# Altium footprint library BGA.PcbLib: 7 footprints
Each footprint in its own frame and in the unit in brackets; x right, y up, seen from the top. Pads: shape width x height; smd on the part's side, far side on the other; paste and mask are expansions set on the pad; w line width, h text height; cw(c..) or ccw(c..) is an arc to the next point about the centre after c.
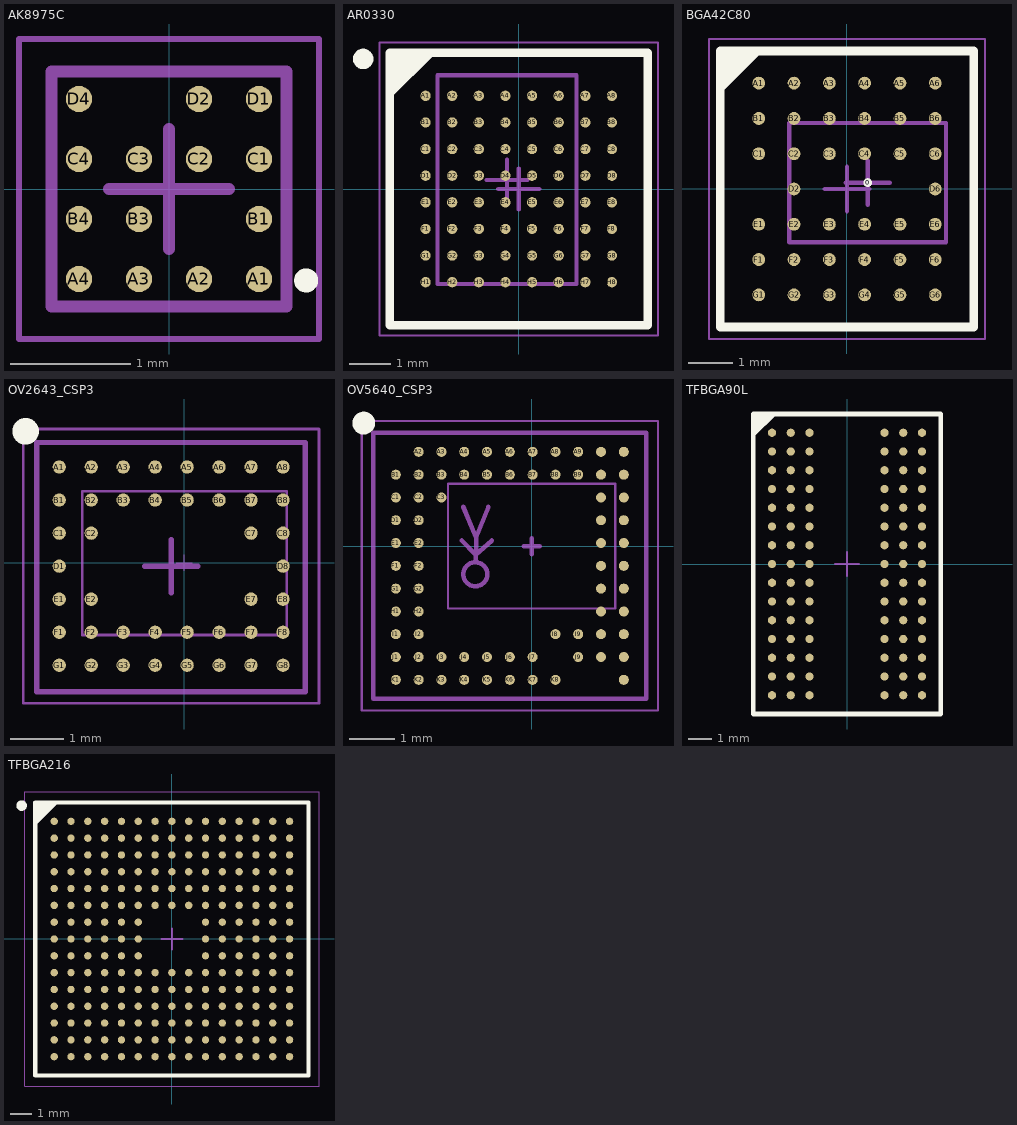
[diagram p0: the footprints below, top view; thin cyan lines are the x and y axes]

## AK8975C [mm]
height 0.65
pads (14):
  round 0.22 smd: A1(0.75,-0.75) A2(0.25,-0.75) A3(-0.25,-0.75) A4(-0.75,-0.75) B1(0.75,-0.25) B3(-0.25,-0.25) B4(-0.75,-0.25) C1(0.75,0.25) C2(0.25,0.25) C3(-0.25,0.25) C4(-0.75,0.25) D1(0.75,0.75) D2(0.25,0.75) D4(-0.75,0.75)
Top Overlay:
  circle w0.1: c1.143,-0.762 r0.05
Mechanical 13:
  lines w0.1: -0.98,-0.98 -0.98,0.98 0.98,0.98 0.98,-0.98 -0.98,-0.98
Mechanical 15:
  lines w0.05: -1.25,-1.25 -1.25,1.25 1.25,1.25 1.25,-1.25 -1.25,-1.25
  lines w0.1: -0.5,0 0.5,0 ; 0,-0.5 0,0.5
3D body: height 0.65, standoff 0.19, extent -0.98,-0.98 0.98,0.98

## AR0330 [mm] "BGA, 64-Leads, Body 6,28x6,65mmx0,74mm, Pitch 0,65mm"
height 0.75
pads (64):
  round 0.25 smd: A1(-2.275,2.275) A2(-1.625,2.275) A3(-0.975,2.275) A4(-0.325,2.275) A5(0.325,2.275) A6(0.975,2.275) A7(1.625,2.275) A8(2.275,2.275) B1(-2.275,1.625) B2(-1.625,1.625) B3(-0.975,1.625) B4(-0.325,1.625) B5(0.325,1.625) B6(0.975,1.625) B7(1.625,1.625) B8(2.275,1.625) C1(-2.275,0.975) C2(-1.625,0.975) C3(-0.975,0.975) C4(-0.325,0.975) C5(0.325,0.975) C6(0.975,0.975) C7(1.625,0.975) C8(2.275,0.975) D1(-2.275,0.325) D2(-1.625,0.325) D3(-0.975,0.325) D4(-0.325,0.325) D5(0.325,0.325) D6(0.975,0.325) D7(1.625,0.325) D8(2.275,0.325) E1(-2.275,-0.325) E2(-1.625,-0.325) E3(-0.975,-0.325) E4(-0.325,-0.325) E5(0.325,-0.325) E6(0.975,-0.325) E7(1.625,-0.325) E8(2.275,-0.325) F1(-2.275,-0.975) F2(-1.625,-0.975) F3(-0.975,-0.975) F4(-0.325,-0.975) F5(0.325,-0.975) F6(0.975,-0.975) F7(1.625,-0.975) F8(2.275,-0.975) G1(-2.275,-1.625) G2(-1.625,-1.625) G3(-0.975,-1.625) G4(-0.325,-1.625) G5(0.325,-1.625) G6(0.975,-1.625) G7(1.625,-1.625) G8(2.275,-1.625) H1(-2.275,-2.275) H2(-1.625,-2.275) H3(-0.975,-2.275) H4(-0.325,-2.275) H5(0.325,-2.275) H6(0.975,-2.275) H7(1.625,-2.275) H8(2.275,-2.275)
Top Overlay:
  circle w0.25: c-3.8,3.175 r0.125
  region: -2.15,3.325 -3.15,2.325 -3.15,3.325
  lines w0.2: -3.15,2.325 -2.15,3.325 ; -3.15,-3.325 3.15,-3.325 3.15,3.325 -3.15,3.325 -3.15,-3.325
Mechanical 1:
  lines w0.1: -0.79,0.223 0.21,0.223 ; -0.29,-0.277 -0.29,0.723 ; -1.987,-2.317 1.408,-2.317 1.408,2.776 -1.987,2.776 -1.987,-2.317
Mechanical 13:
  lines w0.1: -3.14,-3.325 3.14,-3.325 3.14,3.325 -3.14,3.325 -3.14,-3.325
Mechanical 15:
  lines w0.05: -3.4,-3.575 3.4,-3.575 3.4,3.575 -3.4,3.575 -3.4,-3.575
  lines w0.1: -0.5,0 0.5,0 ; 0,-0.5 0,0.5
3D body: height 0.75, standoff 0.1, extent -3.14,-3.325 3.14,3.325

## BGA42C80 [mm] "BGA, 42-Leads, Body 5,73x6,26mmx0,96mm, Pitch 0,80mm"
height 0.97
pads (39):
  round 0.2 on Top Overlay: 0(0.469,0.145)
  round 0.29 smd: A1(-2,2.4) A2(-1.2,2.4) A3(-0.4,2.4) A4(0.4,2.4) A5(1.2,2.4) A6(2,2.4) B1(-2,1.6) B2(-1.2,1.6) B3(-0.4,1.6) B4(0.4,1.6) B5(1.2,1.6) B6(2,1.6) C1(-2,0.8) C2(-1.2,0.8) C3(-0.4,0.8) C4(0.4,0.8) C5(1.2,0.8) C6(2,0.8) D2(-1.2,0) D6(2,0) E1(-2,-0.8) E2(-1.2,-0.8) E3(-0.4,-0.8) E4(0.4,-0.8) E5(1.2,-0.8) E6(2,-0.8) F1(-2,-1.6) F2(-1.2,-1.6) F3(-0.4,-1.6) F4(0.4,-1.6) F5(1.2,-1.6) F6(2,-1.6) G1(-2,-2.4) G2(-1.2,-2.4) G3(-0.4,-2.4) G4(0.4,-2.4) G5(1.2,-2.4) G6(2,-2.4)
Top Overlay:
  region: -2.046,3.125 -2.875,2.296 -2.875,3.125
  lines w0.2: -2.875,2.296 -2.046,3.125 ; -2.875,-3.125 -2.875,3.125 2.875,3.125 2.875,-3.125 -2.875,-3.125
Mechanical 1:
  lines w0.1: -0.031,0.145 0.969,0.145 ; 0.469,-0.355 0.469,0.645 ; -1.306,-1.205 2.244,-1.205 2.244,1.495 -1.306,1.495 -1.306,-1.205
Mechanical 13:
  lines w0.1: -2.865,-3.13 -2.865,3.13 2.865,3.13 2.865,-3.13 -2.865,-3.13
Mechanical 15:
  lines w0.05: -3.125,-3.4 -3.125,3.4 3.125,3.4 3.125,-3.4 -3.125,-3.4
  lines w0.1: -0.5,0 0.5,0 ; 0,-0.5 0,0.5
3D body: height 0.97, standoff 0.15, extent -2.865,-3.13 2.865,3.13

## OV2643_CSP3 [mm] "BGA, 56-Leads, Body 5,03x4,64mmx0,84mm, Pitch 0,60mm"
height 0.84
pads (42):
  round 0.25 smd: A1(-2.35,1.798) A2(-1.75,1.798) A3(-1.15,1.798) A4(-0.55,1.798) A5(0.05,1.798) A6(0.65,1.798) A7(1.25,1.798) A8(1.85,1.798) B1(-2.35,1.178) B2(-1.75,1.178) B3(-1.15,1.178) B4(-0.55,1.178) B5(0.05,1.178) B6(0.65,1.178) B7(1.25,1.178) B8(1.85,1.178) C1(-2.35,0.558) C2(-1.75,0.558) C7(1.25,0.558) C8(1.85,0.558) D1(-2.35,-0.062) D8(1.85,-0.062) E1(-2.35,-0.682) E2(-1.75,-0.682) E7(1.25,-0.682) E8(1.85,-0.682) F1(-2.35,-1.302) F2(-1.75,-1.302) F3(-1.15,-1.302) F4(-0.55,-1.302) F5(0.05,-1.302) F6(0.65,-1.302) F7(1.25,-1.302) F8(1.85,-1.302) G1(-2.35,-1.922) G2(-1.75,-1.922) G3(-1.15,-1.922) G4(-0.55,-1.922) G5(0.05,-1.922) G6(0.65,-1.922) G7(1.25,-1.922) G8(1.85,-1.922)
Top Overlay:
  circle w0.25: c-2.98,2.468 r0.125
Mechanical 1:
  lines w0.05: -1.921,-1.355 1.92,-1.355 1.92,1.345 -1.921,1.345 -1.921,-1.355
Mechanical 13:
  lines w0.01: -0.15,0 0.15,0 ; 0,-0.15 0,0.15
  lines w0.1: -2.77,-2.422 2.27,-2.422 ; -2.77,-2.382 -2.77,2.258 2.27,2.258 2.27,-2.382
Mechanical 15:
  lines w0.05: -3.025,-2.637 -3.025,2.513 2.525,2.513 2.525,-2.637 -3.025,-2.637
  lines w0.1: -0.75,-0.062 0.25,-0.062 ; -0.25,-0.562 -0.25,0.438
3D body: height 0.84, standoff 0.13, extent -2.77,-2.382 2.27,2.258

## OV5640_CSP3 [mm]
height 0.8
pads (71):
  round 0.22 smd: A2(-2.48,2.07) A3(-1.98,2.07) A4(-1.48,2.07) A5(-0.98,2.07) A6(-0.48,2.07) A7(0.02,2.07) A8(0.52,2.07) A9(1.02,2.07) A10(1.52,2.07) A11(2.02,2.07) B1(-2.98,1.57) B2(-2.48,1.57) B3(-1.98,1.57) B4(-1.48,1.57) B5(-0.98,1.57) B6(-0.48,1.57) B7(0.02,1.57) B8(0.52,1.57) B9(1.02,1.57) B10(1.52,1.57) B11(2.02,1.57) C1(-2.98,1.07) C2(-2.48,1.07) C3(-1.98,1.07) C10(1.52,1.07) C11(2.02,1.07) D1(-2.98,0.57) D2(-2.48,0.57) D10(1.52,0.57) D11(2.02,0.57) E1(-2.98,0.07) E2(-2.48,0.07) E10(1.52,0.07) E11(2.02,0.07) F1(-2.98,-0.43) F2(-2.48,-0.43) F10(1.52,-0.43) F11(2.02,-0.43) G1(-2.98,-0.93) G2(-2.48,-0.93) G10(1.52,-0.93) G11(2.02,-0.93) H1(-2.98,-1.43) H2(-2.48,-1.43) H10(1.52,-1.43) H11(2.02,-1.43) I1(-2.98,-1.93) I2(-2.48,-1.93) I8(0.52,-1.93) I9(1.02,-1.93) I10(1.52,-1.93) I11(2.02,-1.93) J1(-2.98,-2.43) J2(-2.48,-2.43) J3(-1.98,-2.43) J4(-1.48,-2.43) J5(-0.98,-2.43) J6(-0.48,-2.43) J7(0.02,-2.43) J9(1.02,-2.43) J10(1.52,-2.43) J11(2.02,-2.43) K1(-2.98,-2.93) K2(-2.48,-2.93) K3(-1.98,-2.93) K4(-1.48,-2.93) K5(-0.98,-2.93) K6(-0.48,-2.93) K7(0.02,-2.93) K8(0.52,-2.93) K11(2.02,-2.93)
Top Overlay:
  circle w0.25: c-3.685,2.7 r0.125
Mechanical 13:
  circle w0.1: c-1.237,-0.615 r0.264
  lines w0.05: -1.838,-1.368 1.835,-1.368 1.835,1.37 -1.838,1.37 -1.838,-1.368
  lines w0.1: -1.537,0.125 -1.227,-0.185 -0.877,0.125 ; -1.5,0.865 -1.22,0.195 ; -1.23,-0.355 -1.22,0.195 ; -0.95,0.865 -1.22,0.195 ; -0.175,0 0.175,0 ; 0,-0.175 0,0.175 ; -3.475,-3.35 -3.475,2.49 2.515,2.49 2.515,-3.35 -3.475,-3.35
Mechanical 15:
  lines w0.05: -3.73,-3.605 -3.73,2.745 2.77,2.745 2.77,-3.605 -3.73,-3.605
3D body: height 0.8, standoff 0.16, extent -3.475,-3.35 2.515,2.49

## TFBGA90L [mm]
height 1.4
pads (90):
  round 0.35 smd mask+0.1: A1(-3.2,5.6) A2(-2.4,5.6) A3(-1.6,5.6) A7(1.6,5.6) A8(2.4,5.6) A9(3.2,5.6) B1(-3.2,4.8) B2(-2.4,4.8) B3(-1.6,4.8) B7(1.6,4.8) B8(2.4,4.8) B9(3.2,4.8) C1(-3.2,4) C2(-2.4,4) C3(-1.6,4) C7(1.6,4) C8(2.4,4) C9(3.2,4) D1(-3.2,3.2) D2(-2.4,3.2) D3(-1.6,3.2) D7(1.6,3.2) D8(2.4,3.2) D9(3.2,3.2) E1(-3.2,2.4) E2(-2.4,2.4) E3(-1.6,2.4) E7(1.6,2.4) E8(2.4,2.4) E9(3.2,2.4) F1(-3.2,1.6) F2(-2.4,1.6) F3(-1.6,1.6) F7(1.6,1.6) F8(2.4,1.6) F9(3.2,1.6) G1(-3.2,0.8) G2(-2.4,0.8) G3(-1.6,0.8) G7(1.6,0.8) G8(2.4,0.8) G9(3.2,0.8) H1(-3.2,0) H2(-2.4,0) H3(-1.6,0) H7(1.6,0) H8(2.4,0) H9(3.2,0) J1(-3.2,-0.8) J2(-2.4,-0.8) J3(-1.6,-0.8) J7(1.6,-0.8) J8(2.4,-0.8) J9(3.2,-0.8) K1(-3.2,-1.6) K2(-2.4,-1.6) K3(-1.6,-1.6) K7(1.6,-1.6) K8(2.4,-1.6) K9(3.2,-1.6) L1(-3.2,-2.4) L2(-2.4,-2.4) L3(-1.6,-2.4) L7(1.6,-2.4) L8(2.4,-2.4) L9(3.2,-2.4) M1(-3.2,-3.2) M2(-2.4,-3.2) M3(-1.6,-3.2) M7(1.6,-3.2) M8(2.4,-3.2) M9(3.2,-3.2) N1(-3.2,-4) N2(-2.4,-4) N3(-1.6,-4) N7(1.6,-4) N8(2.4,-4) N9(3.2,-4) P1(-3.2,-4.8) P2(-2.4,-4.8) P3(-1.6,-4.8) P7(1.6,-4.8) P8(2.4,-4.8) P9(3.2,-4.8) R1(-3.2,-5.6) R2(-2.4,-5.6) R3(-1.6,-5.6) R7(1.6,-5.6) R8(2.4,-5.6) R9(3.2,-5.6)
Top Overlay:
  region: -3,6.4 -4,5.4 -4,6.4
  lines w0.2: -4,-6.4 4,-6.4 4,6.4 -4,6.4 -4,-6.4
Mechanical 13:
  lines w0.1: -4,-6.4 4,-6.4 4,6.4 -4,6.4 -4,-6.4
Mechanical 15:
  lines w0.1: -0.5,0 0.5,0 ; 0,-0.5 0,0.5 ; -4,-6.4 4,-6.4 4,6.4 -4,6.4 -4,-6.4
3D body: height 1.4, standoff 0.45, extent -4,-6.4 4,6.4

## TFBGA216 [mm] "BGA, 216-Balls, Body 13x13mm, Pitch 0.8mm"
height 1.1
pads (216):
  round 0.35 smd: A1(-5.6,5.6) A2(-4.8,5.6) A3(-4,5.6) A4(-3.2,5.6) A5(-2.4,5.6) A6(-1.6,5.6) A7(-0.8,5.6) A8(0,5.6) A9(0.8,5.6) A10(1.6,5.6) A11(2.4,5.6) A12(3.2,5.6) A13(4,5.6) A14(4.8,5.6) A15(5.6,5.6) B1(-5.6,4.8) B2(-4.8,4.8) B3(-4,4.8) B4(-3.2,4.8) B5(-2.4,4.8) B6(-1.6,4.8) B7(-0.8,4.8) B8(0,4.8) B9(0.8,4.8) B10(1.6,4.8) B11(2.4,4.8) B12(3.2,4.8) B13(4,4.8) B14(4.8,4.8) B15(5.6,4.8) C1(-5.6,4) C2(-4.8,4) C3(-4,4) C4(-3.2,4) C5(-2.4,4) C6(-1.6,4) C7(-0.8,4) C8(0,4) C9(0.8,4) C10(1.6,4) C11(2.4,4) C12(3.2,4) C13(4,4) C14(4.8,4) C15(5.6,4) D1(-5.6,3.2) D2(-4.8,3.2) D3(-4,3.2) D4(-3.2,3.2) D5(-2.4,3.2) D6(-1.6,3.2) D7(-0.8,3.2) D8(0,3.2) D9(0.8,3.2) D10(1.6,3.2) D11(2.4,3.2) D12(3.2,3.2) D13(4,3.2) D14(4.8,3.2) D15(5.6,3.2) E1(-5.6,2.4) E2(-4.8,2.4) E3(-4,2.4) E4(-3.2,2.4) E5(-2.4,2.4) E6(-1.6,2.4) E7(-0.8,2.4) E8(0,2.4) E9(0.8,2.4) E10(1.6,2.4) E11(2.4,2.4) E12(3.2,2.4) E13(4,2.4) E14(4.8,2.4) E15(5.6,2.4) F1(-5.6,1.6) F2(-4.8,1.6) F3(-4,1.6) F4(-3.2,1.6) F5(-2.4,1.6) F6(-1.6,1.6) F7(-0.8,1.6) F8(0,1.6) F9(0.8,1.6) F10(1.6,1.6) F11(2.4,1.6) F12(3.2,1.6) F13(4,1.6) F14(4.8,1.6) F15(5.6,1.6) G1(-5.6,0.8) G2(-4.8,0.8) G3(-4,0.8) G4(-3.2,0.8) G5(-2.4,0.8) G6(-1.6,0.8) G10(1.6,0.8) G11(2.4,0.8) G12(3.2,0.8) G13(4,0.8) G14(4.8,0.8) G15(5.6,0.8) H1(-5.6,0) H2(-4.8,0) H3(-4,0) H4(-3.2,0) H5(-2.4,0) H6(-1.6,0) H10(1.6,0) H11(2.4,0) H12(3.2,0) H13(4,0) H14(4.8,0) H15(5.6,0) J1(-5.6,-0.8) J2(-4.8,-0.8) J3(-4,-0.8) J4(-3.2,-0.8) J5(-2.4,-0.8) J6(-1.6,-0.8) J10(1.6,-0.8) J11(2.4,-0.8) J12(3.2,-0.8) J13(4,-0.8) J14(4.8,-0.8) J15(5.6,-0.8) K1(-5.6,-1.6) K2(-4.8,-1.6) K3(-4,-1.6) K4(-3.2,-1.6) K5(-2.4,-1.6) K6(-1.6,-1.6) K7(-0.8,-1.6) K8(0,-1.6) K9(0.8,-1.6) K10(1.6,-1.6) K11(2.4,-1.6) K12(3.2,-1.6) K13(4,-1.6) K14(4.8,-1.6) K15(5.6,-1.6) L1(-5.6,-2.4) L2(-4.8,-2.4) L3(-4,-2.4) L4(-3.2,-2.4) L5(-2.4,-2.4) L6(-1.6,-2.4) L7(-0.8,-2.4) L8(0,-2.4) L9(0.8,-2.4) L10(1.6,-2.4) L11(2.4,-2.4) L12(3.2,-2.4) L13(4,-2.4) L14(4.8,-2.4) L15(5.6,-2.4) M1(-5.6,-3.2) M2(-4.8,-3.2) M3(-4,-3.2) M4(-3.2,-3.2) M5(-2.4,-3.2) M6(-1.6,-3.2) M7(-0.8,-3.2) M8(0,-3.2) M9(0.8,-3.2) M10(1.6,-3.2) M11(2.4,-3.2) M12(3.2,-3.2) M13(4,-3.2) M14(4.8,-3.2) M15(5.6,-3.2) N1(-5.6,-4) N2(-4.8,-4) N3(-4,-4) N4(-3.2,-4) N5(-2.4,-4) N6(-1.6,-4) N7(-0.8,-4) N8(0,-4) N9(0.8,-4) N10(1.6,-4) N11(2.4,-4) N12(3.2,-4) N13(4,-4) N14(4.8,-4) N15(5.6,-4) P1(-5.6,-4.8) P2(-4.8,-4.8) P3(-4,-4.8) P4(-3.2,-4.8) P5(-2.4,-4.8) P6(-1.6,-4.8) P7(-0.8,-4.8) P8(0,-4.8) P9(0.8,-4.8) P10(1.6,-4.8) P11(2.4,-4.8) P12(3.2,-4.8) P13(4,-4.8) P14(4.8,-4.8) P15(5.6,-4.8) R1(-5.6,-5.6) R2(-4.8,-5.6) R3(-4,-5.6) R4(-3.2,-5.6) R5(-2.4,-5.6) R6(-1.6,-5.6) R7(-0.8,-5.6) R8(0,-5.6) R9(0.8,-5.6) R10(1.6,-5.6) R11(2.4,-5.6) R12(3.2,-5.6) R13(4,-5.6) R14(4.8,-5.6) R15(5.6,-5.6)
Top Overlay:
  circle w0.25: c-7.15,6.35 r0.125
  region: -5.513,6.5 -6.5,5.513 -6.5,6.5
  lines w0.2: -6.5,5.513 -5.513,6.5 ; -6.5,-6.5 6.5,-6.5 6.5,6.5 -6.5,6.5 -6.5,-6.5
Mechanical 13:
  lines w0.1: -6.5,-6.5 6.5,-6.5 6.5,6.5 -6.5,6.5 -6.5,-6.5
Mechanical 15:
  lines w0.05: -7,-7 7,-7 7,7 -7,7 -7,-7
  lines w0.1: -0.5,0 0.5,0 ; 0,-0.5 0,0.5
3D body: height 1.1, standoff 0.15, extent -6.5,-6.5 6.5,6.5